# Altium footprint library X_2X1.6_small.PcbLib: 1 footprints
Each footprint in its own frame and in the unit in brackets; x right, y up, seen from the top. Pads: shape width x height; smd on the part's side, far side on the other; paste and mask are expansions set on the pad; w line width, h text height; cw(c..) or ccw(c..) is an arc to the next point about the centre after c.
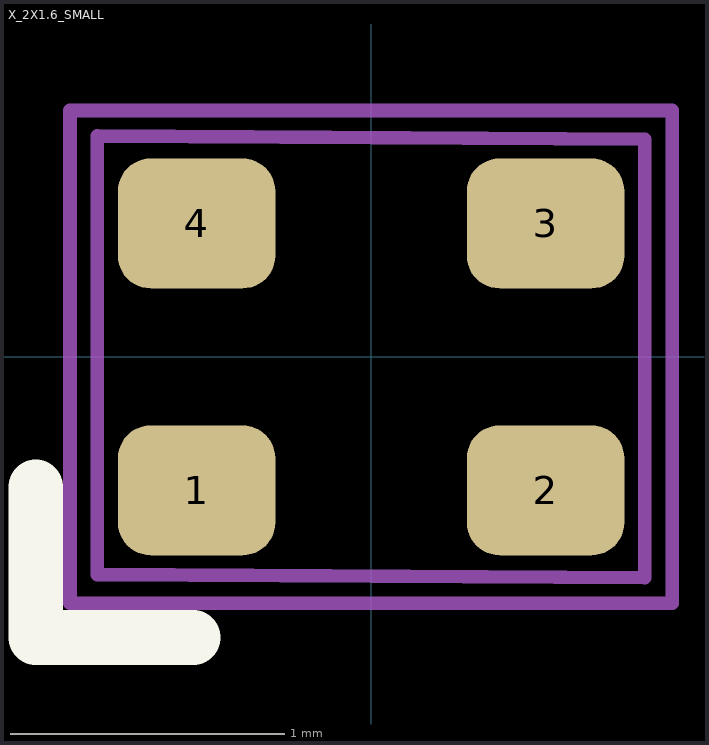
[diagram p0: the footprint, top view; thin cyan lines are the x and y axes]

## X_2X1.6_SMALL [mm]
pads (4):
  rrect50% 0.575x0.475 smd paste-0.02 mask+0.05: 1(-0.637,-0.487) 2(0.638,-0.487) 3(0.638,0.488) 4(-0.637,0.488)
Top Overlay:
  lines w0.2: -1.225,-0.475 -1.225,-0.975 -1.225,-1.025 -0.65,-1.025
Top Assembly:
  lines w0.05: -1,-0.795 -1,0.807 1,0.795 1,-0.807 -1,-0.795
Top Courtyard:
  lines w0.05: -1.1,-0.9 1.1,-0.9 1.1,0.9 -1.1,0.9 -1.1,-0.9
3D body "ECS-320-8-37B-CKY-TR.stp": height 0.6, standoff 0, extent -1.025,-0.825 1.025,0.825